# Altium footprint library Connectors_Audio.PcbLib: 2 footprints
Each footprint in its own frame and in the unit in brackets; x right, y up, seen from the top. Pads: shape width x height; smd on the part's side, far side on the other; paste and mask are expansions set on the pad; w line width, h text height; cw(c..) or ccw(c..) is an arc to the next point about the centre after c.
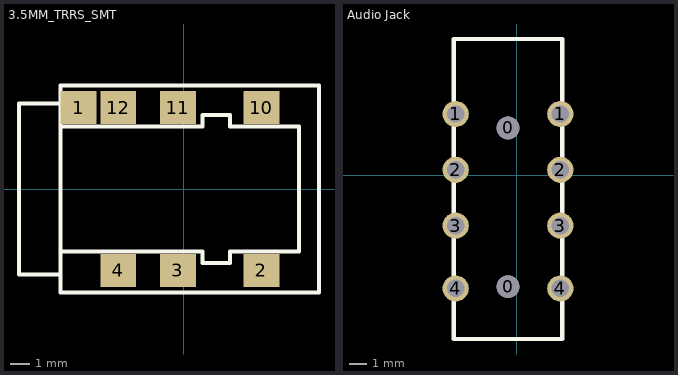
[diagram p0: the footprints below, top view; thin cyan lines are the x and y axes]

## 3.5MM_TRRS_SMT [mm] "SJ-4361 X-SMT-X"
pads (7):
  rect 1.8x1.65 smd paste+0 mask+0: 1(-5.3,4.1) 2(3.9,-4.1) 3(-0.3,-4.1) 4(-3.3,-4.1) 10(3.9,4.1) 11(-0.3,4.1) 12(-3.3,4.1)
Top Overlay:
  lines w0.2: -6.2,-4.3 -8.3,-4.3 -8.3,4.3 -6.2,4.3 ; -6.2,-3.15 0.925,-3.15 0.925,-3.725 2.325,-3.725 2.325,-3.15 5.8,-3.15 5.8,3.15 2.325,3.15 2.325,3.725 0.925,3.725 0.925,3.15 -6.2,3.15 ; -6.2,-5.2 6.8,-5.2 6.8,5.2 -6.2,5.2 -6.2,-5.2
3D body "sj-43614-smt.stp": height 3.9, standoff -1.8, extent -8.3,-4.3 5.7,4.3

## Audio Jack [mm] "4 pin"
pads (10):
  round 1.3 hole 1.3: 0(-0.5,-6.4) 0(-0.5,2.7)
  round 1.5 hole 1: 1(-3.5,3.5) 1(2.5,3.5) 2(-3.5,0.3) 2(2.5,0.3) 3(-3.5,-2.9) 3(2.5,-2.9) 4(-3.5,-6.5) 4(2.5,-6.5)
Top Overlay:
  lines w0.254: -3.6,-9.4 -3.6,7.8 2.6,7.8 2.6,-9.4 -3.6,-9.4
3D body "sj-3503-smt.stp": height 5.8, standoff -0.1, extent -4.8,-6.1 3.8,7.9